# Altium footprint library Discharge.PcbLib: 1 footprints
Each footprint in its own frame and in the unit in brackets; x right, y up, seen from the top. Pads: shape width x height; smd on the part's side, far side on the other; paste and mask are expansions set on the pad; w line width, h text height; cw(c..) or ccw(c..) is an arc to the next point about the centre after c.
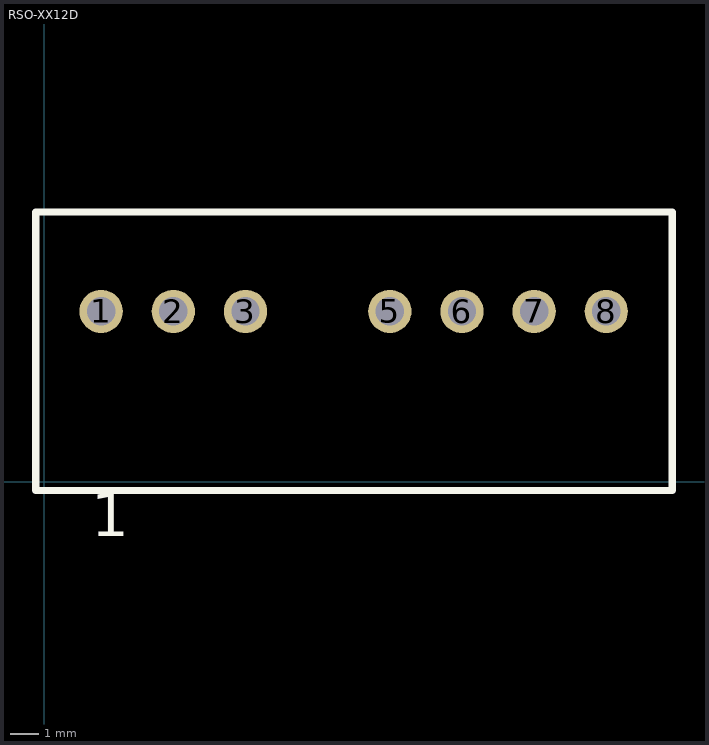
[diagram p0: the footprint, top view; thin cyan lines are the x and y axes]

## RSO-XX12D [mm] "Econoline DCDC +/- 12V output SIP 8 Package"
pads (7):
  round 1.524 hole 1: 1(2,6) 2(4.54,6) 3(7.08,6) 5(12.16,6) 6(14.7,6) 7(17.24,6) 8(19.78,6)
Top Overlay:
  lines w0.254: -0.3,-0.3 -0.3,9.5 22.1,9.5 22.1,-0.3 -0.3,-0.3
  text "1" at 1.651,-1.905 h1.52
3D body: height 11.1, standoff 0.5, extent 0,0.001 21.8,9.199